# Altium footprint library nnts_brad.PcbLib: 22 footprints (part 2 of 2)
Each footprint in its own frame and in the unit in brackets; x right, y up, seen from the top. Pads: shape width x height; smd on the part's side, far side on the other; paste and mask are expansions set on the pad; w line width, h text height; cw(c..) or ccw(c..) is an arc to the next point about the centre after c.
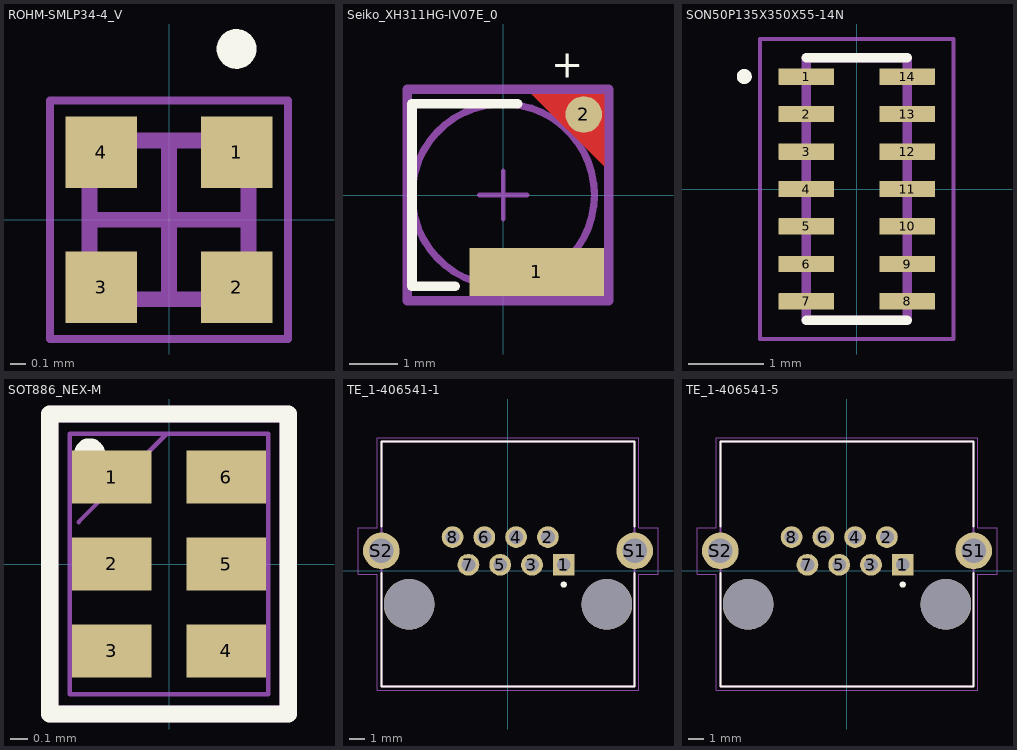
[diagram p1: the footprints below, top view; thin cyan lines are the x and y axes]

## ROHM-SMLP34-4_V [mm] "SMD, 4-Leads, Body 1x1mm, Pitch 0.85mm"
height 0.25
pads (4):
  rect 0.45x0.45 smd: 1(0.425,0.425) 2(0.425,-0.425) 3(-0.425,-0.425) 4(-0.425,0.425)
Top Overlay:
  circle w0.125: c0.425,1.075 r0.062
Mechanical 13:
  lines w0.1: -0.5,-0.35 -0.5,0.35 -0.35,0.5 0.35,0.5 0.5,0.35 0.5,-0.35 0.35,-0.5 -0.35,-0.5 -0.5,-0.35
Mechanical 15:
  lines w0.05: -0.75,-0.75 -0.75,0.75 0.75,0.75 0.75,-0.75 -0.75,-0.75
  lines w0.1: -0.5,0 0.5,0 ; 0,-0.5 0,0.5
3D body: height 0.25, standoff 0, extent -0.3,-0.5 0.3,0.5
3D body: height 0.08, standoff 0, extent -0.5,-0.5 0.5,0.5

## Seiko_XH311HG-IV07E_0 [mm]
pads (2):
  rect 2.8x1 smd paste+0 mask+0: 1(0.7,-1.6)
  round 0.759 smd paste+0 mask+0: 2(1.678,1.678)
Top Layer:
  region: 0.6,2.1 2.1,2.1 2.1,0.6
Top Overlay:
  lines w0.2: -1,-1.9 -1.9,-1.9 -1.9,1.9 0.3,1.9
  text "+" at 1,2.25 h1
Mechanical 10:
  lines w0.2: -2,-2.2 2.2,-2.2 2.2,2.2 -2,2.2 -2,-2.2
  text ".Designator" at 0.1,0 h1
Mechanical 12:
  circle w0.15: c0,0 r1.9
Mechanical 15:
  lines w0.1: -0.5,0 0.5,0 ; 0,-0.5 0,0.5
  lines w0.2: -2,-2.2 2.2,-2.2 2.2,2.2 -2,2.2 -2,-2.2
3D body "Cap_Seiko_XH311HG-IV07E_eec.STEP": height 0.25, standoff 0, extent -2,-2.2 2.2,2.2

## SON50P135X350X55-14N [mm]
pads (14):
  rrect6% 0.74x0.22 smd: 1(-0.67,1.5) 2(-0.67,1) 3(-0.67,0.5) 4(-0.67,0) 5(-0.67,-0.5) 6(-0.67,-1) 7(-0.67,-1.5) 8(0.67,-1.5) 9(0.67,-1) 10(0.67,-0.5) 11(0.67,0) 12(0.67,0.5) 13(0.67,1) 14(0.67,1.5)
Top Overlay:
  circle w0.1: c-1.5,1.5 r0.05
  lines w0.127: -0.675,-1.75 0.675,-1.75 ; -0.675,1.75 0.675,1.75
Mechanical 13:
  circle w0.1: c-0.9,1.5 r0.05
  lines w0.127: -0.675,-1.75 -0.675,1.75 0.675,1.75 0.675,-1.75 -0.675,-1.75
Mechanical 15:
  lines w0.05: -1.29,-2 -1.29,2 1.29,2 1.29,-2 -1.29,-2
3D body "TPD6E05U06RVZR--3DModel-STEP-56544.STEP": height 0.56, standoff 0.01, extent -0.675,-1.75 0.675,1.75

## SOT886_NEX-M [mil]
pads (6):
  rect 18x12 smd paste+0 mask+1: 1(-13,19.71) 2(-13,0.01) 4(13,-19.68) 5(13,0) 6(13,19.68)
  rect 18x12 smd mask+1: 3(-13,-19.68)
Top Overlay:
  circle w5: c-18,25 r1
  lines w3.94: -27,-34 -27,34 27,34 27,-34 -27,-34
Mechanical 5:
  lines w3.94: -27,-34 -27,34 27,34 27,-34 -27,-34
  text ".Designator" at 0.94,-7.5 h19.68
Mechanical 13:
  lines w1: -20.5,9.5 -0.5,29.5 ; -22.5,-29.5 -22.5,29.5 22.5,29.5 22.5,-29.5 -22.5,-29.5
3D body "SOT886_NEX-M.step": height 10.12, standoff 0, extent -22.51,-29.48 22.52,29.5
3D body: height 10, standoff 0, extent 0,0 10,10
3D body "SOT886_NEX-M.step": height 10.12, standoff 0, extent -22.51,-29.48 22.52,29.49

## TE_1-406541-1 [mm]
pads (12):
  rect 1.398x1.398 hole 0.89: 1(3.58,0.38)
  round 1.398 hole 0.89: 2(2.56,2.16) 3(1.54,0.38) 4(0.52,2.16) 5(-0.5,0.38) 6(-1.52,2.16) 7(-2.54,0.38) 8(-3.56,2.16)
  round 2.355 hole 1.57: S1(8.13,1.27) S2(-8.13,1.27)
  round 3.25 hole 3.25 unplated: ""(-6.35,-2.16) ""(6.35,-2.16)
Top Overlay:
  circle w0.2: c3.58,-0.89 r0.1
  lines w0.127: -8.13,-0.16 -8.13,-7.44 8.13,-7.44 8.13,-0.16 ; -8.13,2.84 -8.13,8.3 8.13,8.3 8.13,2.84
Mechanical 13:
  lines w0.127: -8.13,-7.44 -8.13,8.3 8.13,8.3 8.13,-7.44 -8.13,-7.44
Mechanical 15:
  lines w0.05: -9.63,-0.23 -9.63,2.77 -8.38,2.77 -8.38,8.55 8.38,8.55 8.38,2.77 9.63,2.77 9.63,-0.23 8.38,-0.23 8.38,-7.69 -8.38,-7.69 -8.38,-0.23 -9.63,-0.23
3D body "c-1-406541-1-l-3d.stp": height 14.6, standoff -4.15, extent -9.347,-7.468 9.296,8.28

## TE_1-406541-5 [mm]
pads (12):
  rect 1.398x1.398 hole 0.89: 1(3.58,0.38)
  round 1.398 hole 0.89: 2(2.56,2.16) 3(1.54,0.38) 4(0.52,2.16) 5(-0.5,0.38) 6(-1.52,2.16) 7(-2.54,0.38) 8(-3.56,2.16)
  round 2.355 hole 1.57: S1(8.13,1.27) S2(-8.13,1.27)
  round 3.25 hole 3.25 unplated: ""(-6.35,-2.16) ""(6.35,-2.16)
Top Overlay:
  circle w0.2: c3.58,-0.89 r0.1
  lines w0.127: -8.13,-0.16 -8.13,-7.44 8.13,-7.44 8.13,-0.16 ; -8.13,2.84 -8.13,8.3 8.13,8.3 8.13,2.84
Mechanical 13:
  lines w0.127: -8.13,-7.44 -8.13,8.3 8.13,8.3 8.13,-7.44 -8.13,-7.44
Mechanical 15:
  lines w0.05: -9.63,-0.23 -9.63,2.77 -8.38,2.77 -8.38,8.55 8.38,8.55 8.38,2.77 9.63,2.77 9.63,-0.23 8.38,-0.23 8.38,-7.69 -8.38,-7.69 -8.38,-0.23 -9.63,-0.23
3D body "c-1-406541-5-l1-3d.stp": height 13.48, standoff -4.07, extent -8.104,-7.494 8.17,8.254